# Altium schematic symbol library ic-sensor.SchLib: 26 symbols
Pins are listed as number, name and electrical type; pins without a type are passive.

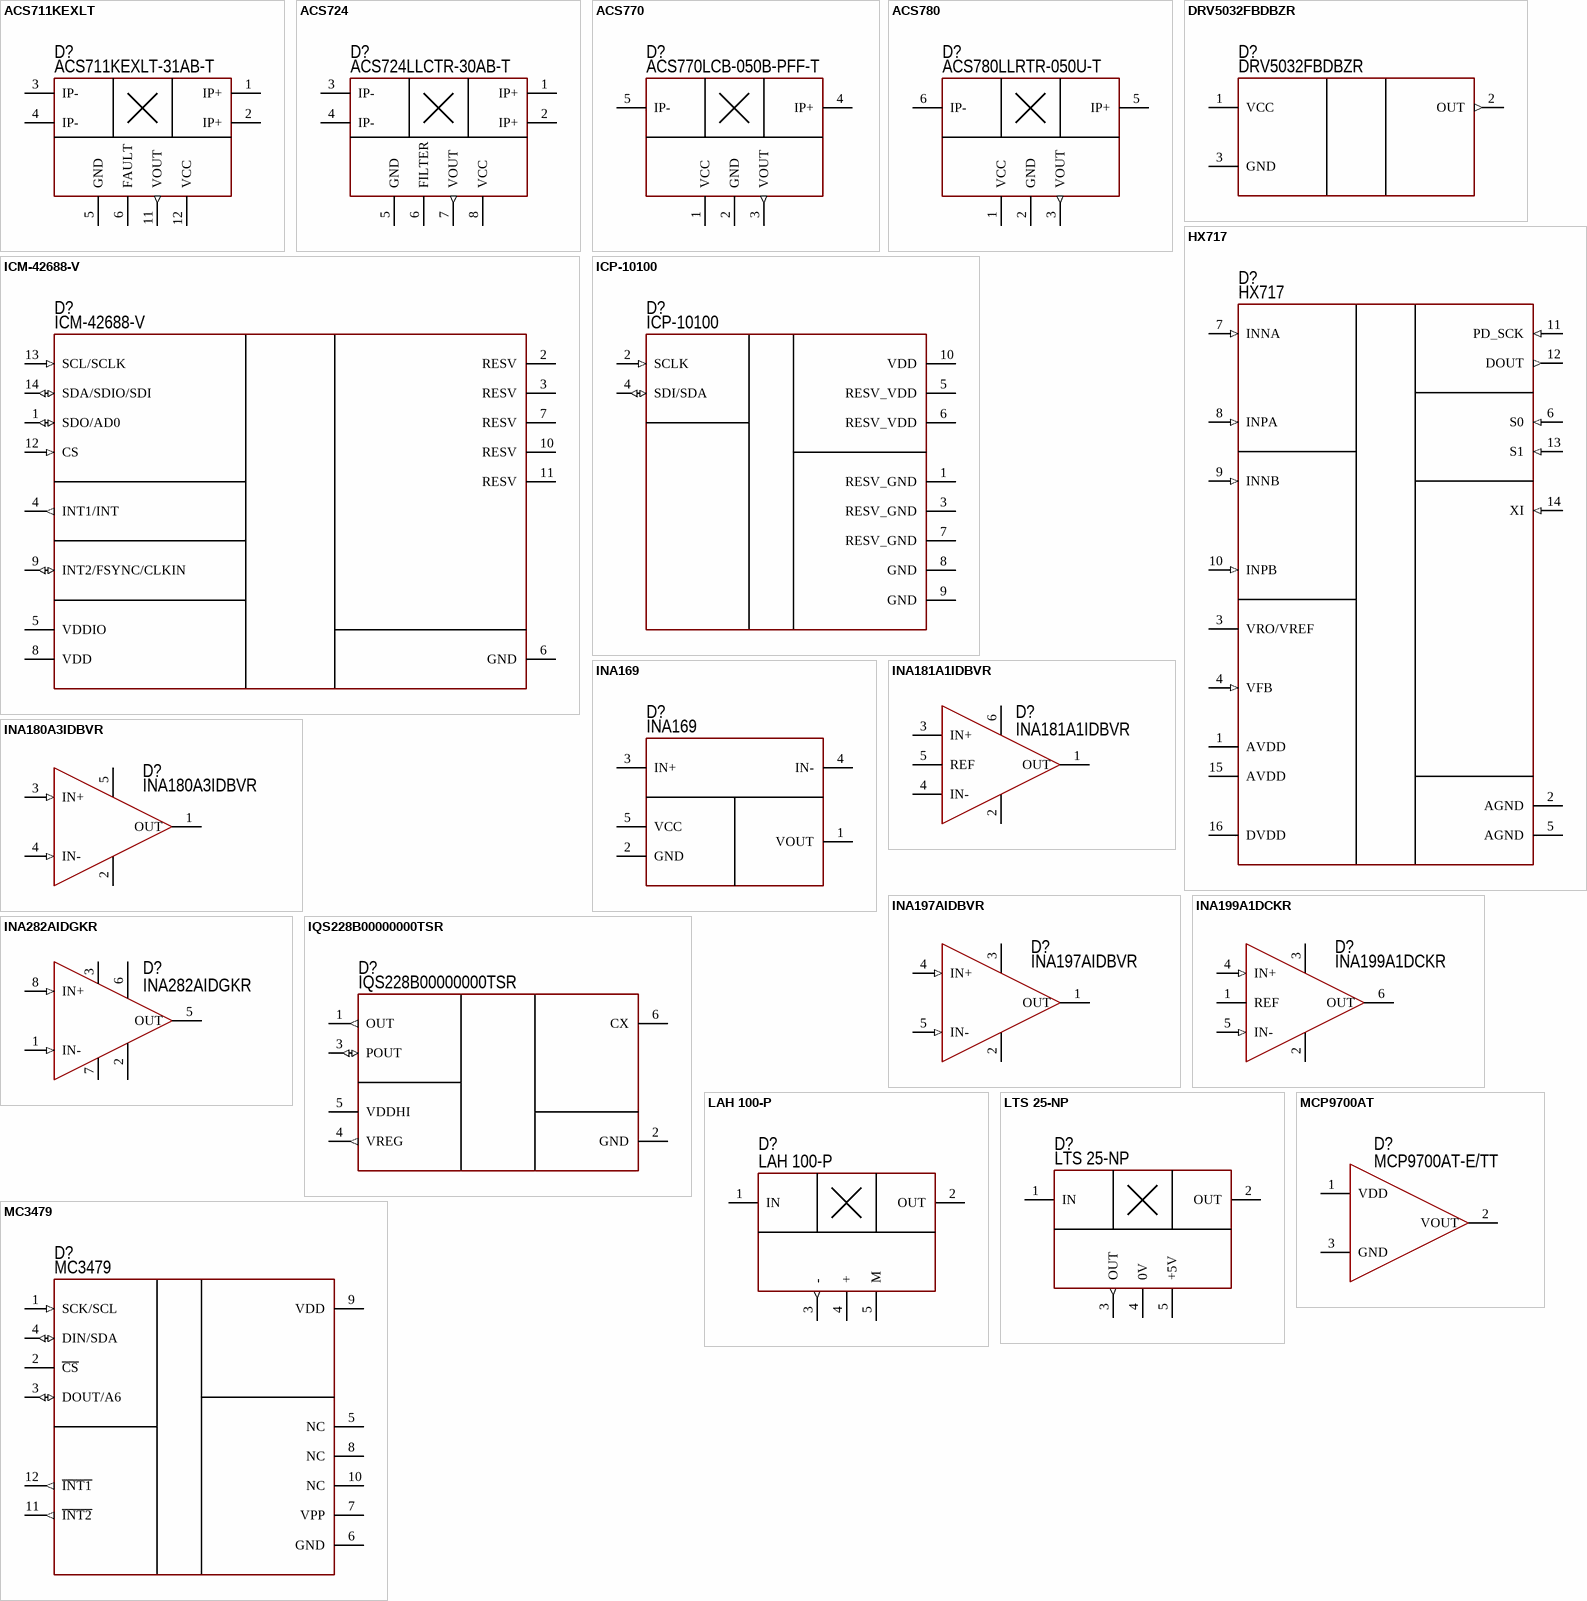
[diagram p0: symbols ACS711KEXLT to MCP9700AT]

## ACS711KEXLT
designator D?  PartNumber: ACS711KEXLT-31AB-T
Current sensors; Manufacturer: Allegro MicroSystems; ValueManufacturerPartNumber: IC current sensors, 31A, ±0.6%, 100 kHz, 45mV/A, -40...+125°C, 12-PowerWFQFN; Supply: 3...5.5V; Accuracy: ±0.6%; GainBandwidth: 100 kHz; Sensitivity: 45mV/A; Sensing: 31A; HelpURL: https://www.digikey.com/product-detail/en/allegro-microsystems-llc/ACS711KEXLT-31AB-T/620-1482-1-ND/3868202; Package: 12-PowerWFQFN; ComponentType: IC current sensors; Temperature: -40...+125°C
footprint SENSOR: ACS711KEXLT
pins: 1 IP+, 2 IP+, 3 IP-, 4 IP-, 5 GND, 6 FAULT, 11 VOUT (out), 12 VCC

## ACS724
designator D?  PartNumber: ACS724LLCTR-30AB-T
Current sensors; Manufacturer: Allegro MicroSystems; ValueManufacturerPartNumber: IC current sensors, 30A, ±0.6%, 120 kHz, 66mV/A, -40...+150°C, 8-SOIC; Supply: 4.5...5.5V; Accuracy: ±0.6%; GainBandwidth: 120 kHz; Sensitivity: 66mV/A; Sensing: 30A; HelpURL: https://www.digikey.com/product-detail/en/allegro-microsystems-llc/ACS724LLCTR-30AB-T/620-1722-1-ND/5175299; Package: 8-SOIC; ComponentType: IC current sensors; Temperature: -40...+150°C
footprint 8-SOIC (pitch 1.27 mm)
pins: 1 IP+, 2 IP+, 3 IP-, 4 IP-, 5 GND, 6 FILTER, 7 VOUT (out), 8 VCC

## ACS770
designator D?  PartNumber: ACS770LCB-050B-PFF-T
Current sensors; Manufacturer: Allegro MicroSystems; ValueManufacturerPartNumber: IC current sensors, 50A, ±0.6%, 120 kHz, 40mV/A, -40...+150°C, 5-CB Module; Supply: 5V; Accuracy: ±0.6%; GainBandwidth: 120 kHz; Sensitivity: 40mV/A; Sensing: 50A; HelpURL: https://www.digikey.com/product-detail/en/texas-instruments/INA197AIDBVR/296-38949-1-ND/5143044; Package: 5-CB Module; ComponentType: IC current sensors; Temperature: -40...+150°C
footprint SENSOR: ACS770
pins: 1 VCC, 2 GND, 3 VOUT (out), 4 IP+, 5 IP-

## ACS780
designator D?  PartNumber: ACS780LLRTR-050U-T
Current sensors; Manufacturer: Allegro MicroSystems; ValueManufacturerPartNumber: IC current sensors, 50A, ±1.5%, 120 kHz, 60mV/A, -40...+150°C, 7-PSOF; Supply: 4.5...5.5V; Accuracy: ±1.5%; GainBandwidth: 120 kHz; Sensitivity: 60mV/A; Sensing: 50A; HelpURL: https://www.digikey.com/product-detail/en/allegro-microsystems-llc/ACS780LLRTR-050U-T/620-1818-1-ND/6189107; Package: 7-PSOF; ComponentType: IC current sensors; Temperature: -40...+150°C
footprint SENSOR: ACS781
pins: 1 VCC, 2 GND, 3 VOUT (out), 5 IP+, 6 IP-

## DRV5032FBDBZR
designator D?  PartNumber: DRV5032FBDBZR
Hall Switch; Manufacturer: Texas Instruments; Supply: 1.65...5.5V; HelpURL: https://www.ti.com/lit/ds/symlink/drv5032.pdf?ts=1738918864468&ref_url=https%253A%252F%252Fwww.mouser.it%252F; Package: SOT23; ComponentType: IC Hall; ValueManufacturerPartNumber: =ComponentType+', '+Sensing+', '+Accuracy+', '+GainBandwidth+', '+Sensitivity+', '+Temperature+', '+Package; Temperature: -40...+85°C
footprint SOT23
pins: 1 VCC (power), 2 OUT (out), 3 GND (power)

## HX717
designator D?  PartNumber: HX717
Scales ADC; Manufacturer: AVIA SEMICONDUCTOR; Supply: 2.7...5.5V; HelpURL: https://datasheet.lcsc.com/lcsc/2009281504_Avia-Semicon-Xiamen-HX717_C575394.pdf; Package: SOP (16); ComponentType: IC ADC; ValueManufacturerPartNumber: =ComponentType+', '+Sensing+', '+Accuracy+', '+GainBandwidth+', '+Sensitivity+', '+Temperature+', '+Package; Temperature: -40...+85°C
footprint 16-SO (pitch 1.27 mm)
pins: 1 AVDD (power), 2 AGND (power), 3 VRO/VREF (power), 4 VFB (in), 5 AGND (power), 6 S0 (in), 7 INNA (in), 8 INPA (in), 9 INNB (in), 10 INPB (in), 11 PD_SCK (in), 12 DOUT (out), 13 S1 (in), 14 XI (in), 15 AVDD (power), 16 DVDD (power)

## ICM-42688-V
designator D?  PartNumber: ICM-42688-V
6-axis MotionTracking device; Manufacturer: TDK; Supply: 1.71...3.6V; HelpURL: https://invensense.tdk.com/wp-content/uploads/2021/04/DS-000439-ICM-42688-V-v1.1.pdf; Package: LGA (14); ComponentType: IC MCM; ValueManufacturerPartNumber: =ComponentType+', '+Sensing+', '+Accuracy+', '+GainBandwidth+', '+Sensitivity+', '+Temperature+', '+Package; Temperature: -40...+85°C
footprint 14-LGA (2.5x3mm)
pins: 1 SDO/AD0 (io), 2 RESV, 3 RESV, 4 INT1/INT (out), 5 VDDIO (power), 6 GND (power), 7 RESV, 8 VDD (power), 9 INT2/FSYNC/CLKIN (io), 10 RESV, 11 RESV, 12 CS (in), 13 SCL/SCLK (in), 14 SDA/SDIO/SDI (io)

## ICP-10100
designator D?  PartNumber: ICP-10100
Barometric Pressure Sensor; Manufacturer: TDK; Supply: 1.8V; HelpURL: https://product.tdk.com/system/files/dam/doc/product/sensor/pressure/capacitive-pressure/data_sheet/ds-000186-icp-101xx.pdf; Package: 2x2x0.72; ComponentType: IC Pressure; ValueManufacturerPartNumber: =ComponentType+', '+Sensing+', '+Accuracy+', '+GainBandwidth+', '+Sensitivity+', '+Temperature+', '+Package; Temperature: -40...+85°C
footprint SENSOR: ICP-10100 (2.0 x 2.0 x 0.72 mm)
pins: 1 RESV_GND (power), 2 SCLK (in), 3 RESV_GND (power), 4 SDI/SDA (io), 5 RESV_VDD (power), 6 RESV_VDD (power), 7 RESV_GND (power), 8 GND (power), 9 GND (power), 10 VDD (power)

## INA169
designator D?  PartNumber: INA169
Current sensors; Manufacturer: 3Peak; ValueManufacturerPartNumber: IC current sensors, 120A, ±1%, , 100V/V, -40...+150°C, 6-SC70; Supply: 2.7...30V; Accuracy: ±1%; Sensitivity: 100V/V; Sensing: 120A; HelpURL: https://www.ti.com/lit/ds/symlink/ina139.pdf; Package: 6-SC70; ComponentType: IC current sensors; Temperature: -40...+150°C
footprint SOT23-5 (pitch 0.95 mm)
pins: 1 VOUT, 2 GND (power), 3 IN+, 4 IN-, 5 VCC (power)

## INA180A3IDBVR
designator D?  PartNumber: INA180A3IDBVR
Current monitor; Manufacturer: Texas Instruments; ValueManufacturerPartNumber: IC current monitor, ±1.5%, 100V/V, -0.3...+26V, -40...+125°C, SOT23-5; Supply: -0.3...+26V; Accuracy: ±1.5%; GainBandwidth: 100V/V; HelpURL: https://www.digikey.com/product-detail/en/texas-instruments/INA180A3IDBVR/296-47654-1-ND/8133023; Package: SOT23-5; ComponentType: IC current monitor; Temperature: -40...+125°C
footprint SOT23-5 (pitch 0.95 mm)
pins: 1 OUT (power), 2 V- (power), 3 IN+ (in), 4 IN- (in), 5 V+ (power)

## INA181A1IDBVR
designator D?  PartNumber: INA181A1IDBVR
Current monitor; Manufacturer: Texas Instruments; ValueManufacturerPartNumber: IC current monitor, ±3%, 350 kHz, 2.7...5.5V, -40...+125°C, SOT23-6; Supply: 2.7...5.5V; Accuracy: ±3%; GainBandwidth: 350 kHz; HelpURL: https://www.digikey.com/product-detail/en/texas-instruments/INA181A1IDBVR/296-47656-1-ND/8133025; Package: SOT23-6; ComponentType: IC current monitor; Temperature: -40...+125°C
footprint SOT23-6 (pitch 0.95 mm)
pins: 1 OUT (power), 2 V- (power), 3 IN+, 4 IN-, 5 REF, 6 V+ (power)

## INA197AIDBVR
designator D?  PartNumber: INA197AIDBVR
Current monitor; Manufacturer: Texas Instruments; ValueManufacturerPartNumber: IC current monitor, ±3%, 5.5 MHz, -16...+80V, -40...+125°C, SOT23-5; Supply: -16...+80V; Accuracy: ±3%; GainBandwidth: 5.5 MHz; HelpURL: https://www.digikey.com/product-detail/en/texas-instruments/INA197AIDBVR/296-38949-1-ND/5143044; Package: SOT23-5; ComponentType: IC current monitor; Temperature: -40...+125°C
footprint SOT23-5 (pitch 0.95 mm)
pins: 1 OUT (power), 2 V- (power), 3 V+ (power), 4 IN+ (in), 5 IN- (in)

## INA199A1DCKR
designator D?  PartNumber: INA199A1DCKR
Current monitor; Manufacturer: Texas Instruments; ValueManufacturerPartNumber: IC current monitor, ±1.5%, 50V/V, -0.3...+26V, -40...+125°C, SOT23-5; Supply: -0.3...+26V; Accuracy: ±1.5%; GainBandwidth: 50V/V; HelpURL: https://www.digikey.com/product-detail/en/texas-instruments/INA199A1DCKR/296-27329-1-ND/2279290; Package: SOT23-5; ComponentType: IC current monitor; Temperature: -40...+125°C
footprint SC70-6 (SOT23, 5-Leads, Body 2,90x2,80mm, Pitch 0,95mm, IPC Medium Density)
pins: 1 REF (power), 2 V- (power), 3 V+ (power), 4 IN+ (in), 5 IN- (in), 6 OUT (power)

## INA282AIDGKR
designator D?  PartNumber: INA282AIDGKR
Current monitor; Manufacturer: Texas Instruments; ValueManufacturerPartNumber: IC current monitor, ±0.4%, 50V/V, -14...+80V, -40...+125°C, MSOP-8; Supply: -14...+80V; Accuracy: ±0.4%; GainBandwidth: 50V/V; HelpURL: https://www.digikey.com/en/products/detail/texas-instruments/INA282AIDGKR/5267408; Package: MSOP-8; ComponentType: IC current monitor; Temperature: -40...+125°C
footprint 8-MSOP (pitch 0.65 mm)
pins: 1 IN- (in), 2 GND, 3 REF2, 5 OUT, 6 VCC, 7 REF1, 8 IN+ (in)

## IQS228B00000000TSR
designator D?  PartNumber: IQS228B00000000TSR
Single channel capacitive proximity / and touch controller; Manufacturer: Azoteq; Supply: 1.8...3.6V; HelpURL: https://eu.mouser.com/datasheet/2/42/iqs228as_datasheet-1626830.pdf; Package: SOT23-6; ComponentType: IC Touch; ValueManufacturerPartNumber: =ComponentType+', '+Sensing+', '+Accuracy+', '+GainBandwidth+', '+Sensitivity+', '+Temperature+', '+Package; Temperature: -40...+85°C
footprint 6-TSOP (pitch 0.95 mm)
pins: 1 OUT (out), 2 GND (power), 3 POUT (io), 4 VREG (out), 5 VDDHI (power), 6 CX (power)

## LAH 100-P
designator D?  PartNumber: LAH 100-P
Current sensors; Manufacturer: LEM; ValueManufacturerPartNumber: IC current sensors, 100A, ±0.2%, 200 kHz, 1:20000, -25...+85°C; Supply: ±12V; Accuracy: ±0.2%; GainBandwidth: 200 kHz; Sensitivity: 1:20000; Sensing: 100A; HelpURL: https://www.digikey.com/product-detail/en/lem-usa-inc/LAH-100-P/398-1009-ND/409822; Package: Module; ComponentType: IC current sensors; Temperature: -25...+85°C
footprint SENSOR: LAH 100-P
pins: 1 IN, 2 OUT, 3 - (out), 4 +, 5 M

## LTS 25-NP
designator D?  PartNumber: LTS 25-NP
Current sensors; Manufacturer: LEM; ValueManufacturerPartNumber: IC current sensors, 25A, ±0.2%, 200 kHz, 25mV/A, -40...+85°C; Supply: 5V; Accuracy: ±0.2%; GainBandwidth: 200 kHz; Sensitivity: 25mV/A; Sensing: 25A; HelpURL: https://www.digikey.com/product-detail/en/texas-instruments/INA197AIDBVR/296-38949-1-ND/5143044; Package: Module; ComponentType: IC current sensors; Temperature: -40...+85°C
footprint SENSOR: LTS 25-NP
pins: 1 IN, 2 OUT, 3 OUT (out), 4 0V, 5 +5V

## MC3479
designator D?  PartNumber: MC3479
3-Axis Accelerometer; Manufacturer: MEMSIC; Supply: 1.7-3.6V; HelpURL: https://eu.mouser.com/datasheet/2/821/20200827164636363-1900743.pdf; Package: LGA (12); ComponentType: IC Accelerometer; ValueManufacturerPartNumber: =ComponentType+', '+Sensing+', '+Accuracy+', '+GainBandwidth+', '+Sensitivity+', '+Temperature+', '+Package; Temperature: -40...+85°C
footprint SENSOR: MC3479 (2.0 x 2.0 x 0.94 mm)
pins: 1 SCK/SCL (in), 2 ~{CS}, 3 DOUT/A6 (io), 4 DIN/SDA (io), 5 NC, 6 GND (power), 7 VPP, 8 NC, 9 VDD (power), 10 NC, 11 ~{INT2} (out), 12 ~{INT1} (out)

## MCP9700AT
designator D?  PartNumber: MCP9700AT-E/TT
Temperature sensor; Manufacturer: Microchip; ValueManufacturerPartNumber: IC temperature sensor, Analog sensor, ±2°C, Voltage output, 10mV/°C, -40...+125°C, SOT-23-6; Supply: 2.3...5.5V; Accuracy: ±2°C; GainBandwidth: Voltage output; Sensitivity: 10mV/°C; Sensing: Analog sensor; HelpURL: https://www.digikey.com/product-detail/en/microchip-technology/MCP9700AT-E-TT/MCP9700AT-E-TTCT-ND/3622388; Package: SOT-23-6; ComponentType: IC temperature sensor; Temperature: -40...+125°C
footprint SOT23
pins: 1 VDD, 2 VOUT, 3 GND

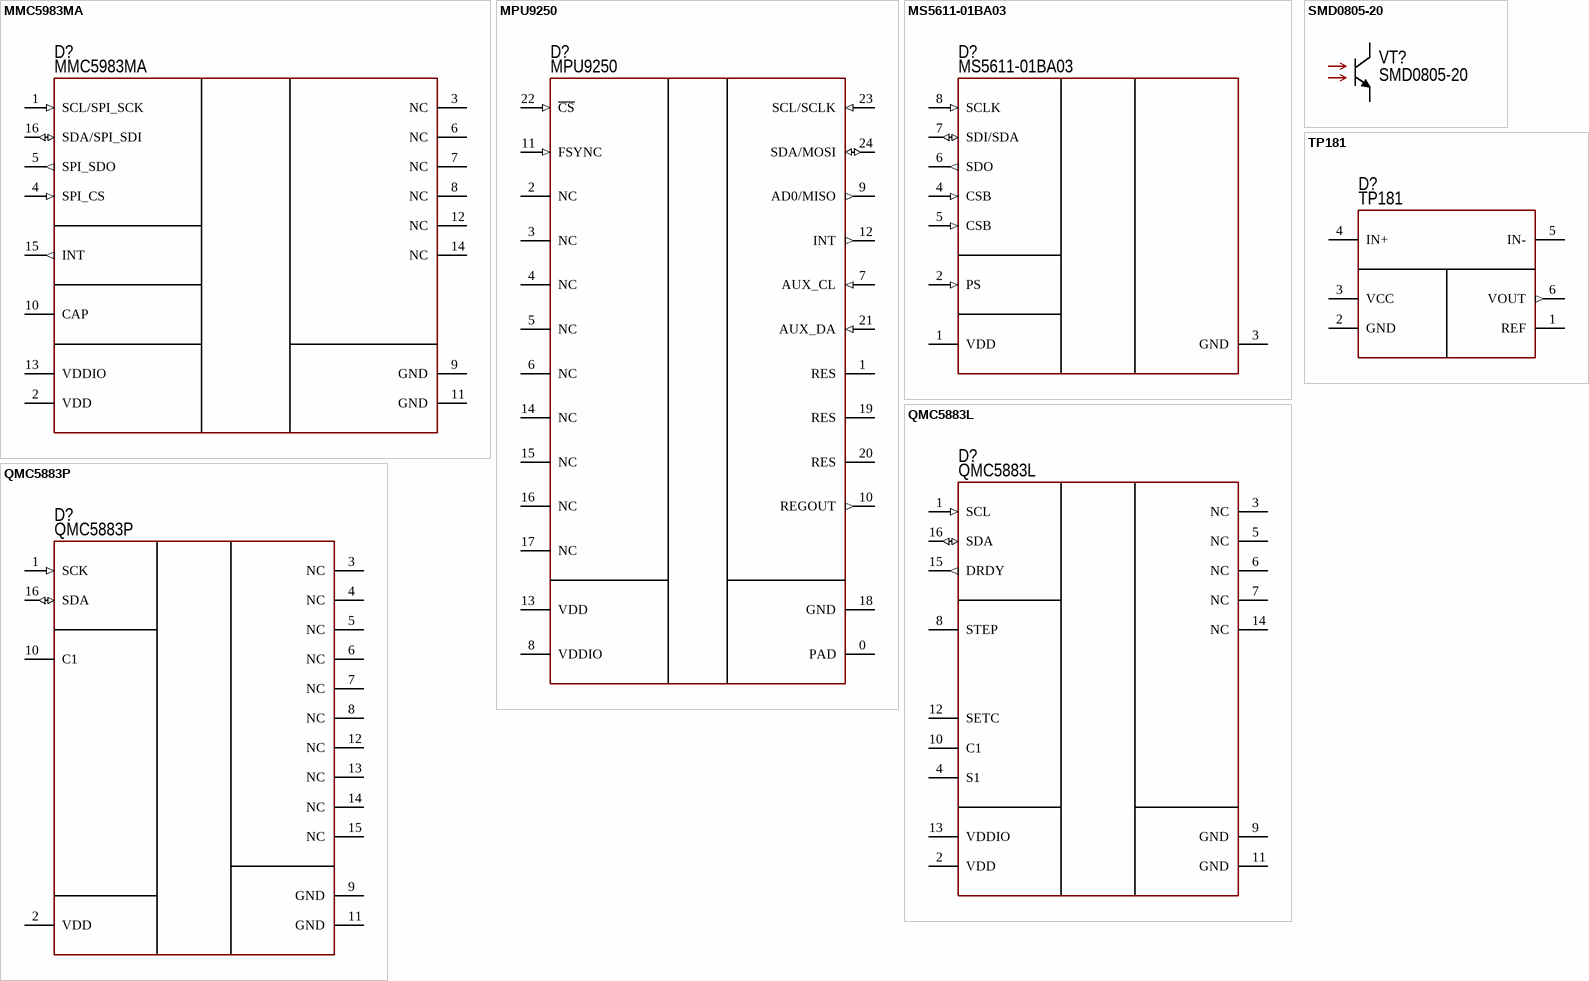
[diagram p1: symbols MMC5983MA to TP181]

## MMC5983MA
designator D?  PartNumber: MMC5983MA
3-axis Magnetic Sensor; Manufacturer: MEMSIC; Supply: 2.8...3.6V; HelpURL: https://www.mouser.ee/datasheet/2/821/Memsic_09102019_MMC5983MA_Datasheet_Rev_A-1635338.pdf; Package: LGA (16); ComponentType: IC MCM; ValueManufacturerPartNumber: =ComponentType+', '+Sensing+', '+Accuracy+', '+GainBandwidth+', '+Sensitivity+', '+Temperature+', '+Package; Temperature: -40...+105°C
footprint 16-LGA (3x3) (3x3 mm, pitch 0.5 mm)
pins: 1 SCL/SPI_SCK (in), 2 VDD (power), 3 NC, 4 SPI_CS (in), 5 SPI_SDO (out), 6 NC, 7 NC, 8 NC, 9 GND (power), 10 CAP (power), 11 GND (power), 12 NC, 13 VDDIO (power), 14 NC, 15 INT (out), 16 SDA/SPI_SDI (io)

## MPU9250
designator D?  PartNumber: MPU9250
9-axis MotionTracking device; Manufacturer: InvenSense; Supply: 2.4...3.6V; HelpURL: https://invensense.tdk.com/wp-content/uploads/2015/02/PS-MPU-9250A-01-v1.1.pdf; Package: TFQFN (24); ComponentType: IC MCM; ValueManufacturerPartNumber: =ComponentType+', '+Sensing+', '+Accuracy+', '+GainBandwidth+', '+Sensitivity+', '+Temperature+', '+Package; Temperature: -40...+85°C
footprint 24-QFN (3X3) (3x3 mm, pitch 0.4 mm, power pad)
pins: 0 PAD (power), 1 RES, 2 NC, 3 NC, 4 NC, 5 NC, 6 NC, 7 AUX_CL (in), 8 VDDIO (power), 9 AD0/MISO (out), 10 REGOUT (out), 11 FSYNC (in), 12 INT (out), 13 VDD (power), 14 NC, 15 NC, 16 NC, 17 NC, 18 GND (power), 19 RES, 20 RES, 21 AUX_DA (in), 22 ~{CS} (in), 23 SCL/SCLK (in), 24 SDA/MOSI (io)

## MS5611-01BA03
designator D?  PartNumber: MS5611-01BA03
Barometric Pressure Sensor; Manufacturer: TE Connectivity; Supply: 2.8...3.6V; HelpURL: https://www.mouser.ee/datasheet/2/418/6/ENG_DS_MS5611_01BA03_B3-1134567.pdf; Package: LGA (8); ComponentType: IC Pressure; ValueManufacturerPartNumber: =ComponentType+', '+Sensing+', '+Accuracy+', '+GainBandwidth+', '+Sensitivity+', '+Temperature+', '+Package; Temperature: -40...+85°C
footprint SENSOR: MS5611 (5.0 x 3.0 x 1.0 mm)
pins: 1 VDD (power), 2 PS (in) "Protocol select", 3 GND (power), 4 CSB (in), 5 CSB (in), 6 SDO (out), 7 SDI/SDA (io), 8 SCLK (in)

## QMC5883L
designator D?  PartNumber: QMC5883L
3-axis Magnetic Sensor; Manufacturer: QST; Supply: 2.16...3.6V; HelpURL: https://datasheet.lcsc.com/lcsc/2012221837_QST-QMC5883L_C976032.pdf; Package: LGA (16); ComponentType: IC MCM; ValueManufacturerPartNumber: =ComponentType+', '+Sensing+', '+Accuracy+', '+GainBandwidth+', '+Sensitivity+', '+Temperature+', '+Package; Temperature: -40...+85°C
footprint 16-LGA (3x3) (3x3 mm, pitch 0.5 mm)
pins: 1 SCL (in), 2 VDD (power), 3 NC, 4 S1, 5 NC, 6 NC, 7 NC, 8 STEP, 9 GND (power), 10 C1, 11 GND (power), 12 SETC, 13 VDDIO (power), 14 NC, 15 DRDY (out), 16 SDA (io)

## QMC5883P
designator D?  PartNumber: QMC5883P
3-axis Magnetic Sensor; Manufacturer: QST; Supply: 2.5...3.6V; HelpURL: https://datasheet.lcsc.com/lcsc/2108072330_QST-QMC5883P_C2847467.pdf; Package: LGA (16); ComponentType: IC MCM; ValueManufacturerPartNumber: =ComponentType+', '+Sensing+', '+Accuracy+', '+GainBandwidth+', '+Sensitivity+', '+Temperature+', '+Package; Temperature: -40...+85°C
footprint 16-LGA (3x3) (3x3 mm, pitch 0.5 mm)
pins: 1 SCK (in), 2 VDD (power), 3 NC, 4 NC, 5 NC, 6 NC, 7 NC, 8 NC, 9 GND (power), 10 C1, 11 GND (power), 12 NC, 13 NC, 14 NC, 15 NC, 16 SDA (io)

## SMD0805-20
designator VT?  PartNumber: SMD0805-20
Light sensor; Manufacturer: Senba Sensing Tech; ValueManufacturerPartNumber: Opto-transistor sensors, Analog sensor, 100 Lux, 1mA output, 70mW, -40...+80°C, 0805; Supply: 1.3...5.5V; Accuracy: 100 Lux; GainBandwidth: 1mA output; Sensitivity: 70mW; Sensing: Analog sensor; HelpURL: https://lcsc.com/product-detail/Ambient-Light-Sensors_Senba-Sensing-Tech-SMD0805-20_C250858.html; Package: 0805; ComponentType: Opto-transistor sensors; Temperature: -40...+80°C
footprint LED: 0805B
pins: 1 E, 2 C

## TP181
designator D?  PartNumber: TP181
Current sensors; Manufacturer: 3Peak; ValueManufacturerPartNumber: IC current sensors, 120A, ±1%, , 100V/V, -40...+150°C, 6-SC70; Supply: 2.7...30V; Accuracy: ±1%; Sensitivity: 100V/V; Sensing: 120A; HelpURL: https://datasheet.lcsc.com/lcsc/2303010930_3PEAK-TP181A1-CR_C2902349.pdf; Package: 6-SC70; ComponentType: IC current sensors; Temperature: -40...+150°C
footprint SC70-6 (SOT23, 5-Leads, Body 2,90x2,80mm, Pitch 0,95mm, IPC Medium Density)
pins: 1 REF, 2 GND, 3 VCC, 4 IN+, 5 IN-, 6 VOUT (out)